# Altium schematic symbol library multiplexer.SchLib: 3 symbols
Pins are listed as number, name and electrical type; pins without a type are passive.

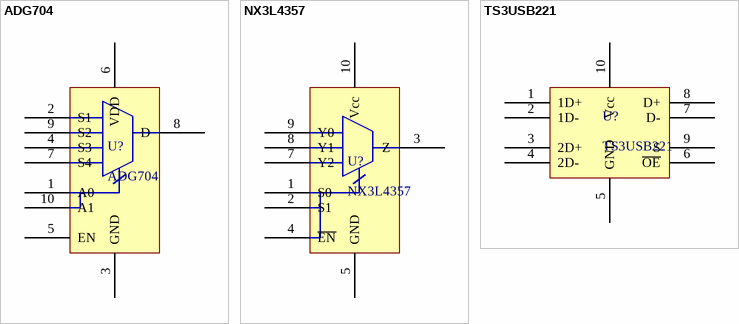
[diagram p0: symbols ADG704 to TS3USB221]

## ADG704
designator U?
CMOS  Low Voltage 4 V, 4-Channel Multiplexer; Supplier 1: Digi-Key; Supplier Part Number 1: ADG704BRMZ-REELCT-ND
footprint uSOIC-10 (SOIC, 10-Leads, Body 3.00x3.00mm, Pitch 1.27mm, IPC Medium Density)
pins: 1 A0, 2 S1, 3 GND, 4 S3, 5 EN, 6 VDD, 7 S4, 8 D, 9 S2, 10 A1

## NX3L4357
designator U?
Low-ohmic single-pole triple-throw analog switch with enable  input; Supplier 1: Digi-Key; Supplier Part Number 1: 568-12422-1-ND
footprint XQFN-10
pins: 1 S0, 2 S1, 3 Z, 4 ~{EN}, 5 GND, 7 Y2, 8 Y1, 9 Y0, 10 Vcc

## TS3USB221
designator U?
High-Speed USB 2.0 (480-Mbps) 1:2 Multiplexer – Demultiplexer  Switch With Single Enable; Supplier 1: Digi-Key; Supplier Part Number 1: 296-24019-1-ND
footprint PUQFN-10
pins: 1 1D+, 2 1D-, 3 2D+, 4 2D-, 5 GND, 6 ~{OE}, 7 D-, 8 D+, 9 S, 10 Vcc